# Altium integrated library NSC LDO.IntLib: 1202 symbols (part 7 of 27)
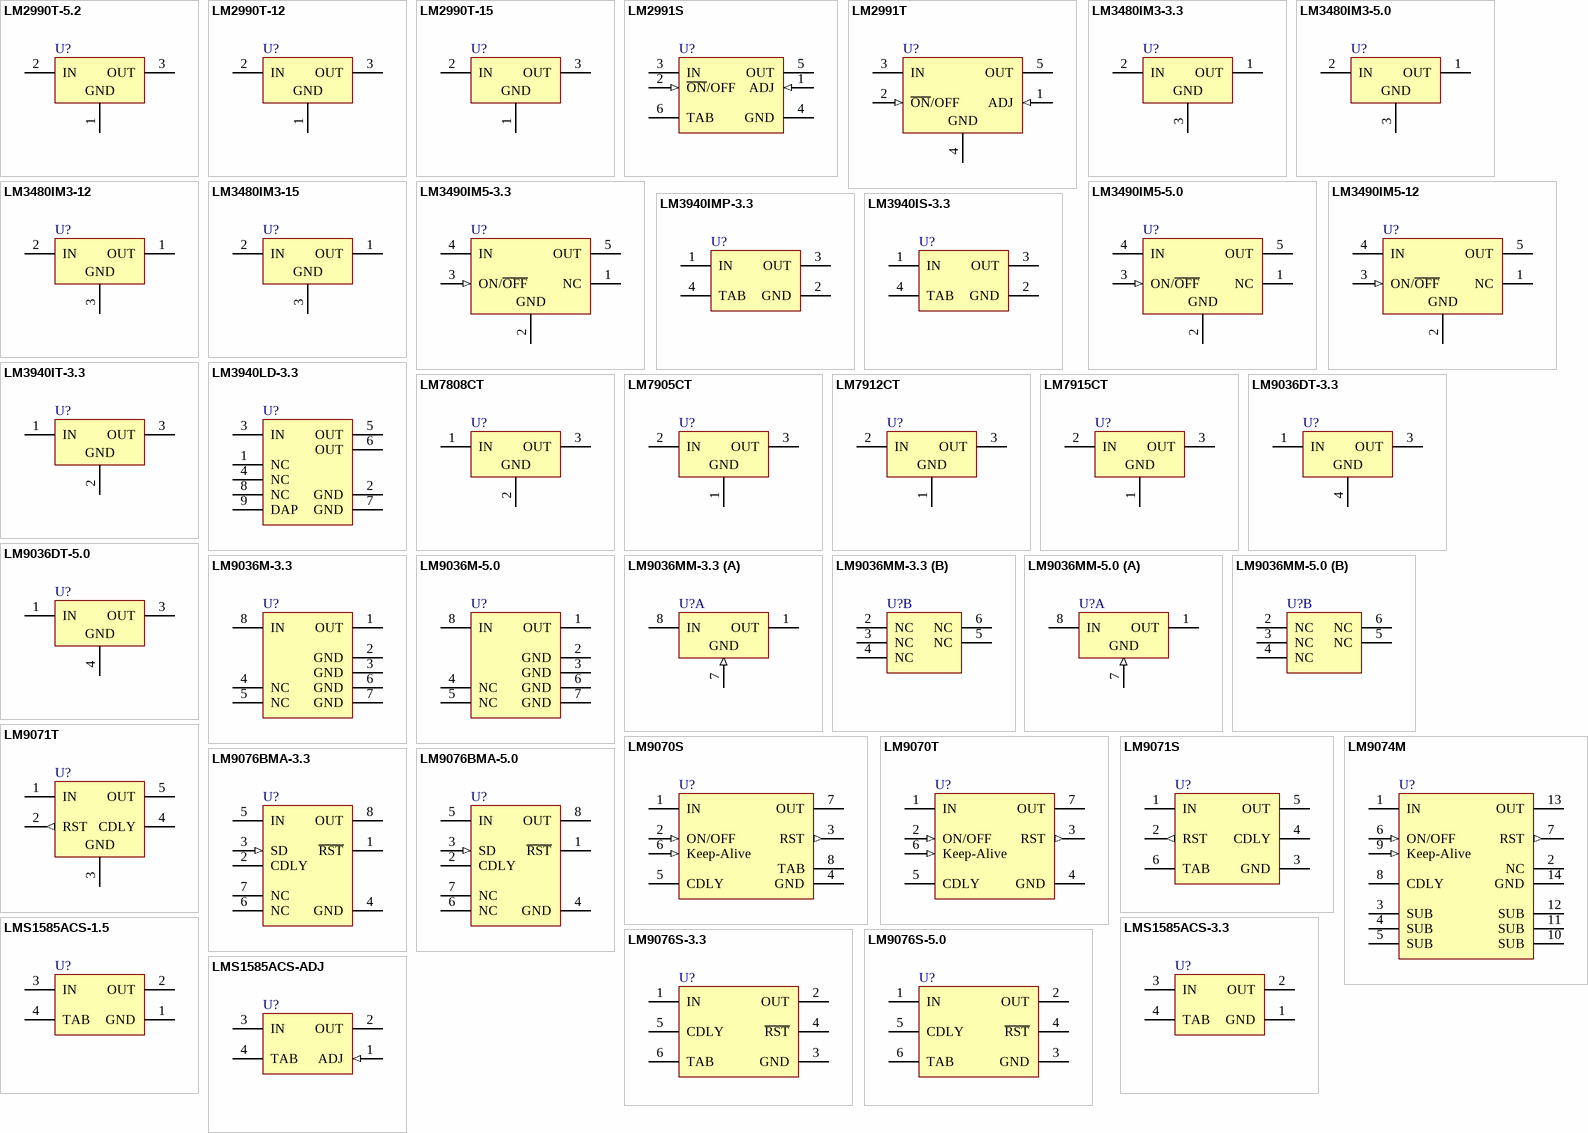
[diagram p36: symbols LM2990T-5.2 to LMS1585ACS-ADJ]

## LM3490IM5-5.0
designator U?
100 mA, SOT-23, Quasi Low-Dropout Linear Voltage Regulator with Logic-Controlled ON/OFF; PartNumber: LM3490IM5-5.0; Manufacturer: National Semiconductor; CompType: LDO IC; PackageTopMarking: L79B*XTT; Published: 4-Dec-2008; DatasheetVersion: Jun-2007; PackageVersion: revD, Aug-2008; PackageReference: MF05A; Publisher: Altium Limited; PackageDescription: Molded SOT-23, .115 x .063 x .040 in Body, 5 Lead, .0375 in Pitch; RoHS: O; PinCount: 5; DigiKeyPartNumber: LM3490IM5-5.0CT-ND; Code_IPC: SOT23-5; ComponentLink1Description: LM3490 Datasheet; ComponentLink1URL: http://www.national.com/ds/LM/LM3490.pdf; ComponentLink2Description: LM3490 Web Page; ComponentLink2URL: http://www.national.com/pf/LM/LM3490.html; ComponentLink3Description: MF05A Package Page; ComponentLink3URL: http://www.national.com/packaging/folders/mf05a.html
footprint MF05A_N (SOT23, 5-Leads, Body 2.9x1.6mm, Pitch 0.95mm, Lead Span 2.8mm, IPC Medium Density)
footprint MF05A_L (SOT23, 5-Leads, Body 2.9x1.6mm, Pitch 0.95mm, Lead Span 2.8mm, IPC High Density)
footprint MF05A_M (SOT23, 5-Leads, Body 2.9x1.6mm, Pitch 0.95mm, Lead Span 2.8mm, IPC Low Density)
pins: 1 NC, 2 GND (power), 3 ON/~{OFF} (in), 4 IN (power), 5 OUT (power)

## LM3490IM5-12
designator U?
100 mA, SOT-23, Quasi Low-Dropout Linear Voltage Regulator with Logic-Controlled ON/OFF; PartNumber: LM3490IM5-12; Manufacturer: National Semiconductor; CompType: LDO IC; PackageTopMarking: L80B*XTT; Published: 4-Dec-2008; DatasheetVersion: Jun-2007; PackageVersion: revD, Aug-2008; PackageReference: MF05A; Publisher: Altium Limited; PackageDescription: Molded SOT-23, .115 x .063 x .040 in Body, 5 Lead, .0375 in Pitch; RoHS: Y; PinCount: 5; DigiKeyPartNumber: LM3490IM5-12CT-ND; Code_IPC: SOT23-5; ComponentLink1Description: LM3490 Datasheet; ComponentLink1URL: http://www.national.com/ds/LM/LM3490.pdf; ComponentLink2Description: LM3490 Web Page; ComponentLink2URL: http://www.national.com/pf/LM/LM3490.html; ComponentLink3Description: MF05A Package Page; ComponentLink3URL: http://www.national.com/packaging/folders/mf05a.html
footprint MF05A_N (SOT23, 5-Leads, Body 2.9x1.6mm, Pitch 0.95mm, Lead Span 2.8mm, IPC Medium Density)
footprint MF05A_L (SOT23, 5-Leads, Body 2.9x1.6mm, Pitch 0.95mm, Lead Span 2.8mm, IPC High Density)
footprint MF05A_M (SOT23, 5-Leads, Body 2.9x1.6mm, Pitch 0.95mm, Lead Span 2.8mm, IPC Low Density)
pins: 1 NC, 2 GND (power), 3 ON/~{OFF} (in), 4 IN (power), 5 OUT (power)

## LM3940IMP-3.3
designator U?
1A Low Dropout Regulator for 5V to 3.3V Conversion; PartNumber: LM3940IMP-3.3; Manufacturer: National Semiconductor; CompType: LDO IC; PackageTopMarking: XYTT*L52B; Published: 4-Dec-2008; DatasheetVersion: Jul-2007; PackageVersion: revB, Apr-2003; PackageReference: MP04A; Publisher: Altium Limited; PackageDescription: Molded SOT-223, 6.50 x 3.56 x 1.6mm Body, 4 Lead, 2.3mm Pitch; RoHS: O; PinCount: 4; DigiKeyPartNumber: LM3940IMP-3.3CT-ND; Code_JEDEC: TO-261-AA; Code_IPC: SOT223-4; ComponentLink1Description: LM3940 Datasheet; ComponentLink1URL: http://www.national.com/ds/LM/LM3940.pdf; ComponentLink2Description: LM3940 Web Page; ComponentLink2URL: http://www.national.com/pf/LM/LM3940.html; ComponentLink3Description: MP04A Package Page; ComponentLink3URL: http://www.national.com/packaging/folders/mp04a.html
footprint MP04A_N (SOT223, 4-Leads, Body 6.5x3.5mm, Pitch 2.3mm, Lead Span 7mm, IPC Medium Density)
footprint MP04A_L (SOT223, 4-Leads, Body 6.5x3.5mm, Pitch 2.3mm, Lead Span 7mm, IPC High Density)
footprint MP04A_M (SOT223, 4-Leads, Body 6.5x3.5mm, Pitch 2.3mm, Lead Span 7mm, IPC Low Density)
pins: 1 IN (power), 2 GND (power), 3 OUT (power), 4 TAB (power)

## LM3940IS-3.3
designator U?
1A Low Dropout Regulator for 5V to 3.3V Conversion; PartNumber: LM3940IS-3.3; Manufacturer: National Semiconductor; CompType: LDO IC; PackageTopMarking: NSUZXYTTE#*LM3940IS*-3.3 P+; Published: 4-Dec-2008; DatasheetVersion: Jul-2007; PackageVersion: revF, Apr-2005; PackageReference: TS3B; Publisher: Altium Limited; PackageDescription: TO-263, Molded, .400 x .390 x .180in, 3 Lead, .1in Pitch, Surface Mount; RoHS: O; PinCount: 3; DigiKeyPartNumber: LM3940IS-3.3-ND; Code_JEDEC: MO-169-AA; ComponentLink1Description: LM3940 Datasheet; ComponentLink1URL: http://www.national.com/ds/LM/LM3940.pdf; ComponentLink2Description: LM3940 Web Page; ComponentLink2URL: http://www.national.com/pf/LM/LM3940.html; ComponentLink3Description: TS3B Package Page; ComponentLink3URL: http://www.national.com/packaging/folders/ts3b.html
footprint TS3B_N (D2-PAK, 4-Leads, Body 8.6x10.2mm, Pitch 2.54mm, Lead Span 14.2mm, IPC Medium Density)
footprint TS3B_L (D2-PAK, 4-Leads, Body 8.6x10.2mm, Pitch 2.54mm, Lead Span 14.2mm, IPC High Density)
footprint TS3B_M (D2-PAK, 4-Leads, Body 8.6x10.2mm, Pitch 2.54mm, Lead Span 14.2mm, IPC Low Density)
pins: 1 IN (power), 2 GND (power), 3 OUT (power), 4 TAB (power)

## LM3940IT-3.3
designator U?
1A Low Dropout Regulator for 5V to 3.3V Conversion; PartNumber: LM3940IT-3.3; Manufacturer: National Semiconductor; CompType: LDO IC; PackageTopMarking: NSUZXYTTE#*LM3940IT*-3.3 P+; Published: 4-Dec-2008; DatasheetVersion: Jul-2007; PackageVersion: revL, Jan-1992; PackageReference: T03B; Publisher: Altium Limited; PackageDescription: TO-220, Molded, 3 Lead, Straight; RoHS: O; PinCount: 3; DigiKeyPartNumber: LM3940IT-3.3-ND; ComponentLink1Description: LM3940 Datasheet; ComponentLink1URL: http://www.national.com/ds/LM/LM3940.pdf; ComponentLink2Description: LM3940 Web Page; ComponentLink2URL: http://www.national.com/pf/LM/LM3940.html; ComponentLink3Description: T03B Package Page; ComponentLink3URL: http://www.national.com/packaging/folders/t03b.html
footprint T03B (TO, Thru-Hole, Vertical, Heatsink Mounted; 3 In-Line Leads; Pitch 2.54 mm)
pins: 1 IN (power), 2 GND (power), 3 OUT (power)

## LM3940LD-3.3
designator U?
1A Low Dropout Regulator for 5V to 3.3V Conversion; PartNumber: LM3940LD-3.3; Manufacturer: National Semiconductor; CompType: LDO IC; PackageTopMarking: NS*UZXYTT*L00013B; Published: 4-Dec-2008; DatasheetVersion: Jul-2007; PackageVersion: revB, Jun-2003; PackageReference: LDC08A; Publisher: Altium Limited; PackageDescription: LLP, Plastic, Dual, 4 x 4 x 0.75mm Body, 8 Lead, 0.8mm Pitch; RoHS: O; PinCount: 8; DigiKeyPartNumber: LM3940LD-3.3-ND; ComponentLink1Description: LM3940 Datasheet; ComponentLink1URL: http://www.national.com/ds/LM/LM3940.pdf; ComponentLink2Description: LM3940 Web Page; ComponentLink2URL: http://www.national.com/pf/LM/LM3940.html; ComponentLink3Description: LDC08A Package Page; ComponentLink3URL: http://www.national.com/packaging/folders/ldc08a.html
footprint LDC08A (PSON, 8-Leads, Body 4x4mm, Pitch 0.8mm, NSC Recommended)
pins: 1 NC, 2 GND (power), 3 IN (power), 4 NC, 5 OUT (power), 6 OUT (power), 7 GND (power), 8 NC, 9 DAP (power)

## LM7808CT
designator U?
Series 3-Terminal Positive Regulators; PartNumber: LM7808CT; Manufacturer: National Semiconductor; CompType: LDO IC; PackageTopMarking: NSUZXYTTE#*LM7808CT; Published: 4-Dec-2008; DatasheetVersion: Jul-2006; PackageVersion: revL, Jan-1992; PackageReference: T03B; Publisher: Altium Limited; PackageDescription: TO-220, Molded, 3 Lead, Straight; RoHS: O; PinCount: 3; DigiKeyPartNumber: LM7808CT-ND; ComponentLink1Description: LM340 Datasheet; ComponentLink1URL: http://www.national.com/ds/LM/LM340.pdf; ComponentLink2Description: LM340 Web Page; ComponentLink2URL: http://www.national.com/pf/LM/LM340.html; ComponentLink3Description: T03B Package Page; ComponentLink3URL: http://www.national.com/packaging/folders/t03b.html
footprint T03B (TO, Thru-Hole, Vertical, Heatsink Mounted; 3 In-Line Leads; Pitch 2.54 mm)
pins: 1 IN (power), 2 GND (power), 3 OUT (power)

## LM7905CT
designator U?
3-Terminal Negative Regulator; PartNumber: LM7905CT; Manufacturer: National Semiconductor; CompType: LDO IC; PackageTopMarking: NSUZXYTTE#*LM7905CT; Published: 4-Dec-2008; DatasheetVersion: Sep-2001; PackageVersion: revL, Jan-1992; PackageReference: T03B; Publisher: Altium Limited; PackageDescription: TO-220, Molded, 3 Lead, Straight; RoHS: O; PinCount: 3; DigiKeyPartNumber: LM7905CTNS-ND; ComponentLink1Description: LM7905 Datasheet; ComponentLink1URL: http://www.national.com/ds/LM/LM7905.pdf; ComponentLink2Description: LM7905 Web Page; ComponentLink2URL: http://www.national.com/pf/LM/LM7905.html; ComponentLink3Description: T03B Package Page; ComponentLink3URL: http://www.national.com/packaging/folders/t03b.html
footprint T03B (TO, Thru-Hole, Vertical, Heatsink Mounted; 3 In-Line Leads; Pitch 2.54 mm)
pins: 1 GND (power), 2 IN (power), 3 OUT (power)

## LM7912CT
designator U?
3-Terminal Negative Regulator; PartNumber: LM7912CT; Manufacturer: National Semiconductor; CompType: LDO IC; PackageTopMarking: NSUZXYTTE#*LM7912CT; Published: 4-Dec-2008; DatasheetVersion: Sep-2001; PackageVersion: revL, Jan-1992; PackageReference: T03B; Publisher: Altium Limited; PackageDescription: TO-220, Molded, 3 Lead, Straight; RoHS: O; PinCount: 3; DigiKeyPartNumber: LM7912CT-ND; ComponentLink1Description: LM7912 Datasheet; ComponentLink1URL: http://www.national.com/ds/LM/LM7912.pdf; ComponentLink2Description: LM7912 Web Page; ComponentLink2URL: http://www.national.com/pf/LM/LM7912.html; ComponentLink3Description: T03B Package Page; ComponentLink3URL: http://www.national.com/packaging/folders/t03b.html
footprint T03B (TO, Thru-Hole, Vertical, Heatsink Mounted; 3 In-Line Leads; Pitch 2.54 mm)
pins: 1 GND (power), 2 IN (power), 3 OUT (power)

## LM7915CT
designator U?
3-Terminal Negative Regulator; PartNumber: LM7915CT; Manufacturer: National Semiconductor; CompType: LDO IC; PackageTopMarking: NSUZXYTTE#*LM7915CT; Published: 4-Dec-2008; DatasheetVersion: Sep-2001; PackageVersion: revL, Jan-1992; PackageReference: T03B; Publisher: Altium Limited; PackageDescription: TO-220, Molded, 3 Lead, Straight; RoHS: O; PinCount: 3; DigiKeyPartNumber: LM7915CT-ND; ComponentLink1Description: LM7915 Datasheet; ComponentLink1URL: http://www.national.com/ds/LM/LM7915.pdf; ComponentLink2Description: LM7915 Web Page; ComponentLink2URL: http://www.national.com/pf/LM/LM7915.html; ComponentLink3Description: T03B Package Page; ComponentLink3URL: http://www.national.com/packaging/folders/t03b.html
footprint T03B (TO, Thru-Hole, Vertical, Heatsink Mounted; 3 In-Line Leads; Pitch 2.54 mm)
pins: 1 GND (power), 2 IN (power), 3 OUT (power)

## LM9036DT-3.3
designator U?
Ultra-Low Quiescent Current Voltage Regulator; PartNumber: LM9036DT-3.3; Manufacturer: National Semiconductor; CompType: LDO IC; PackageTopMarking: NSUZXYTT*LM9036D*T-3.3; Published: 4-Dec-2008; DatasheetVersion: Jul-2008; PackageVersion: revC, Apr-2003; PackageReference: TD03B; Publisher: Altium Limited; PackageDescription: TO252, Molded, Jedec, 6.8 x 6.10 x 2.30mm Body, 3 Lead, 2.28mm Pitch, Surface Mount; RoHS: N; PinCount: 3; DigiKeyPartNumber: LM9036DT-3.3-ND; Code_JEDEC: TO-252-AA; ComponentLink1Description: LM9036 Datasheet; ComponentLink1URL: http://www.national.com/ds/LM/LM9036.pdf; ComponentLink2Description: LM9036 Web Page; ComponentLink2URL: http://www.national.com/pf/LM/LM9036.html; ComponentLink3Description: TD03B Package Page; ComponentLink3URL: http://www.national.com/packaging/folders/td03b.html
footprint TD03B_N (D-PAK, 4-Leads, Body 6.1x6.6mm, Pitch 2.29mm, Lead Span 9.7mm, IPC Medium Density)
footprint TD03B_L (D-PAK, 4-Leads, Body 6.1x6.6mm, Pitch 2.29mm, Lead Span 9.7mm, IPC High Density)
footprint TD03B_M (D-PAK, 4-Leads, Body 6.1x6.6mm, Pitch 2.29mm, Lead Span 9.7mm, IPC Low Density)
pins: 1 IN (power), 3 OUT (power), 4 GND (power)

## LM9036DT-5.0
designator U?
Ultra-Low Quiescent Current Voltage Regulator; PartNumber: LM9036DT-5.0; Manufacturer: National Semiconductor; CompType: LDO IC; PackageTopMarking: NSUZXYTT*LM9036D*T-5.0; Published: 4-Dec-2008; DatasheetVersion: Jul-2008; PackageVersion: revC, Apr-2003; PackageReference: TD03B; Publisher: Altium Limited; PackageDescription: TO252, Molded, Jedec, 6.8 x 6.10 x 2.30mm Body, 3 Lead, 2.28mm Pitch, Surface Mount; RoHS: Y; PinCount: 3; DigiKeyPartNumber: LM9036DT-5.0-ND; Code_JEDEC: TO-252-AA; ComponentLink1Description: LM9036 Datasheet; ComponentLink1URL: http://www.national.com/ds/LM/LM9036.pdf; ComponentLink2Description: LM9036 Web Page; ComponentLink2URL: http://www.national.com/pf/LM/LM9036.html; ComponentLink3Description: TD03B Package Page; ComponentLink3URL: http://www.national.com/packaging/folders/td03b.html
footprint TD03B_N (D-PAK, 4-Leads, Body 6.1x6.6mm, Pitch 2.29mm, Lead Span 9.7mm, IPC Medium Density)
footprint TD03B_L (D-PAK, 4-Leads, Body 6.1x6.6mm, Pitch 2.29mm, Lead Span 9.7mm, IPC High Density)
footprint TD03B_M (D-PAK, 4-Leads, Body 6.1x6.6mm, Pitch 2.29mm, Lead Span 9.7mm, IPC Low Density)
pins: 1 IN (power), 3 OUT (power), 4 GND (power)

## LM9036M-3.3
designator U?
Ultra-Low Quiescent Current Voltage Regulator; PartNumber: LM9036M-3.3; Manufacturer: National Semiconductor; CompType: LDO IC; PackageTopMarking: NSZXTT*LM903*6M-3; Published: 4-Dec-2008; DatasheetVersion: Jul-2008; PackageVersion: revL, Sep-2006; PackageReference: M08A; Publisher: Altium Limited; PackageDescription: SOIC Narrow, 4.9 x 3.9 x 1.45mm, 8 Lead, 1.27mm Pitch; RoHS: Y; PinCount: 8; DigiKeyPartNumber: LM9036M-3.3-ND; Code_JEDEC: MS-012-AA; Code_IPC: SOIC127P600-8; ComponentLink1Description: LM9036 Datasheet; ComponentLink1URL: http://www.national.com/ds/LM/LM9036.pdf; ComponentLink2Description: LM9036 Web Page; ComponentLink2URL: http://www.national.com/pf/LM/LM9036.html; ComponentLink3Description: M08A Package Page; ComponentLink3URL: http://www.national.com/packaging/folders/m08a.html
footprint M08A_N (SOIC, 8-Leads, Body 4.9x3.9mm, Pitch 1.27mm, IPC Medium Density)
footprint M08A_L (SOIC, 8-Leads, Body 4.9x3.9mm, Pitch 1.27mm, IPC High Density)
footprint M08A_M (SOIC, 8-Leads, Body 4.9x3.9mm, Pitch 1.27mm, IPC Low Density)
pins: 1 OUT (power), 2 GND (power), 3 GND (power), 4 NC, 5 NC, 6 GND (power), 7 GND (power), 8 IN (power)

## LM9036M-5.0
designator U?
Ultra-Low Quiescent Current Voltage Regulator; PartNumber: LM9036M-5.0; Manufacturer: National Semiconductor; CompType: LDO IC; PackageTopMarking: NSZXTT*LM903*6M-5; Published: 4-Dec-2008; DatasheetVersion: Jul-2008; PackageVersion: revL, Sep-2006; PackageReference: M08A; Publisher: Altium Limited; PackageDescription: SOIC Narrow, 4.9 x 3.9 x 1.45mm, 8 Lead, 1.27mm Pitch; RoHS: Y; PinCount: 8; DigiKeyPartNumber: LM9036M-5.0-ND; Code_JEDEC: MS-012-AA; Code_IPC: SOIC127P600-8; ComponentLink1Description: LM9036 Datasheet; ComponentLink1URL: http://www.national.com/ds/LM/LM9036.pdf; ComponentLink2Description: LM9036 Web Page; ComponentLink2URL: http://www.national.com/pf/LM/LM9036.html; ComponentLink3Description: M08A Package Page; ComponentLink3URL: http://www.national.com/packaging/folders/m08a.html
footprint M08A_N (SOIC, 8-Leads, Body 4.9x3.9mm, Pitch 1.27mm, IPC Medium Density)
footprint M08A_L (SOIC, 8-Leads, Body 4.9x3.9mm, Pitch 1.27mm, IPC High Density)
footprint M08A_M (SOIC, 8-Leads, Body 4.9x3.9mm, Pitch 1.27mm, IPC Low Density)
pins: 1 OUT (power), 2 GND (power), 3 GND (power), 4 NC, 5 NC, 6 GND (power), 7 GND (power), 8 IN (power)

## LM9036MM-3.3
designator U?
Ultra-Low Quiescent Current Voltage Regulator; PartNumber: LM9036MM-3.3; Manufacturer: National Semiconductor; CompType: LDO IC; PackageTopMarking: ZXTT*KDB; Published: 4-Dec-2008; DatasheetVersion: Jul-2008; PackageVersion: revF, Apr-2008; PackageReference: MUA08A; Publisher: Altium Limited; PackageDescription: MINI SOIC, .118 x .118 x .034in, 8 Lead, .0256in Pitch; RoHS: Y; PinCount: 8; DigiKeyPartNumber: LM9036MM-3.3-ND; Code_JEDEC: MO-187-AA; ComponentLink1Description: LM9036 Datasheet; ComponentLink1URL: http://www.national.com/ds/LM/LM9036.pdf; ComponentLink2Description: LM9036 Web Page; ComponentLink2URL: http://www.national.com/pf/LM/LM9036.html; ComponentLink3Description: MUA08A Package Page; ComponentLink3URL: http://www.national.com/packaging/folders/mua08a.html
footprint MUA08A_N (TSOP, 8-Leads, Body 3x3mm, Pitch 0.65mm, IPC Medium Density)
footprint MUA08A_L (TSOP, 8-Leads, Body 3x3mm, Pitch 0.65mm, IPC High Density)
footprint MUA08A_M (TSOP, 8-Leads, Body 3x3mm, Pitch 0.65mm, IPC Low Density)
part A pins: 1 OUT (power), 7 ADJ (in), 8 IN (power)
part B pins: 2 NC, 3 NC, 4 NC, 5 NC, 6 NC
part A text: GND

## LM9036MM-5.0
designator U?
Ultra-Low Quiescent Current Voltage Regulator; PartNumber: LM9036MM-5.0; Manufacturer: National Semiconductor; CompType: LDO IC; PackageTopMarking: ZXTT*KDA; Published: 4-Dec-2008; DatasheetVersion: Jul-2008; PackageVersion: revF, Apr-2008; PackageReference: MUA08A; Publisher: Altium Limited; PackageDescription: MINI SOIC, .118 x .118 x .034in, 8 Lead, .0256in Pitch; RoHS: Y; PinCount: 8; DigiKeyPartNumber: LM9036MM-5.0-ND; Code_JEDEC: MO-187-AA; ComponentLink1Description: LM9036 Datasheet; ComponentLink1URL: http://www.national.com/ds/LM/LM9036.pdf; ComponentLink2Description: LM9036 Web Page; ComponentLink2URL: http://www.national.com/pf/LM/LM9036.html; ComponentLink3Description: MUA08A Package Page; ComponentLink3URL: http://www.national.com/packaging/folders/mua08a.html
footprint MUA08A_N (TSOP, 8-Leads, Body 3x3mm, Pitch 0.65mm, IPC Medium Density)
footprint MUA08A_L (TSOP, 8-Leads, Body 3x3mm, Pitch 0.65mm, IPC High Density)
footprint MUA08A_M (TSOP, 8-Leads, Body 3x3mm, Pitch 0.65mm, IPC Low Density)
part A pins: 1 OUT (power), 7 ADJ (in), 8 IN (power)
part B pins: 2 NC, 3 NC, 4 NC, 5 NC, 6 NC
part A text: GND

## LM9070S
designator U?
Low-Dropout System Voltage Regulator with Keep-Alive ON/OFF Control; PartNumber: LM9070S; Manufacturer: National Semiconductor; CompType: LDO IC; PackageTopMarking: NSUZXYTTE#*LM9070S; Published: 4-Dec-2008; DatasheetVersion: Mar-2005; PackageVersion: revE, Jul-2003; PackageReference: TS7B; Publisher: Altium Limited; PackageDescription: TO-263, Molded, .400 x .390 x .180in Body, 7 Lead, .050in Pitch, Surface Mount; RoHS: Y; PinCount: 7; DigiKeyPartNumber: LM9070S-ND; Code_JEDEC: MO-169-AC; ComponentLink1Description: LM9070 Datasheet; ComponentLink1URL: http://www.national.com/ds/LM/LM9070.pdf; ComponentLink2Description: LM9070 Web Page; ComponentLink2URL: http://www.national.com/pf/LM/LM9070.html; ComponentLink3Description: TS7B Package Page; ComponentLink3URL: http://www.national.com/packaging/folders/ts7b.html
footprint TS7B_N (D2-PAK, 8-Leads, Body 8.6x10.2mm, Pitch 1.27mm, Lead Span 14.1mm, IPC Medium Density)
footprint TS7B_L (D2-PAK, 8-Leads, Body 8.6x10.2mm, Pitch 1.27mm, Lead Span 14.1mm, IPC High Density)
footprint TS7B_M (D2-PAK, 8-Leads, Body 8.6x10.2mm, Pitch 1.27mm, Lead Span 14.1mm, IPC Low Density)
pins: 1 IN (power), 2 ON/OFF (in), 3 RST (out), 4 GND (power), 5 CDLY, 6 Keep-Alive (in), 7 OUT (power), 8 TAB (power)

## LM9070T
designator U?
Low-Dropout System Voltage Regulator with Keep-Alive ON/OFF Control; PartNumber: LM9070T; Manufacturer: National Semiconductor; CompType: LDO IC; PackageTopMarking: NSUZXYTTE#*LM9070T; Published: 4-Dec-2008; DatasheetVersion: Mar-2005; PackageVersion: revC, Apr-1999; PackageReference: TA07B; Publisher: Altium Limited; PackageDescription: TO-220, Molded, .400 x .590 x .180in Body, 7 Lead, .050in Pitch, Staggered; RoHS: Y; PinCount: 7; DigiKeyPartNumber: LM9070T-ND; Code_JEDEC: TO-220-AB; ComponentLink1Description: LM9070 Datasheet; ComponentLink1URL: http://www.national.com/ds/LM/LM9070.pdf; ComponentLink2Description: LM9070 Web Page; ComponentLink2URL: http://www.national.com/pf/LM/LM9070.html; ComponentLink3Description: TA07B Package Page; ComponentLink3URL: http://www.national.com/packaging/folders/ta07b.html
footprint TA07B (TO, Thru-Hole, Vertical, Heatsink Mounted; 7 Bent Staggered Leads; Pitch 1.27 mm)
pins: 1 IN (power), 2 ON/OFF (in), 3 RST (out), 4 GND (power), 5 CDLY, 6 Keep-Alive (in), 7 OUT (power)

## LM9071S
designator U?
Low-Dropout System Voltage Regulator with Delayed Rest; PartNumber: LM9071S; Manufacturer: National Semiconductor; CompType: LDO IC; PackageTopMarking: NSUZXYTTE#*LM9071S; Published: 4-Dec-2008; DatasheetVersion: Mar-2001; PackageVersion: revD, Apr-2005; PackageReference: TS5B; Publisher: Altium Limited; PackageDescription: TO-263, Molded, .400 x .390 x .180in, 5 Lead, .067in Pitch, Surface Mount; RoHS: Y; PinCount: 5; DigiKeyPartNumber: LM9071S-ND; Code_JEDEC: MO-169-AB; ComponentLink1Description: LM9071 Datasheet; ComponentLink1URL: http://www.national.com/ds/LM/LM9071.pdf; ComponentLink2Description: LM9071 Web Page; ComponentLink2URL: http://www.national.com/pf/LM/LM9071.html; ComponentLink3Description: TS5B Package Page; ComponentLink3URL: http://www.national.com/packaging/folders/ts5b.html
footprint TS5B_N (D2-PAK, 6-Leads, Body 8.6x10.2mm, Pitch 1.7mm, Lead Span 14.1mm, IPC Medium Density)
footprint TS5B_L (D2-PAK, 6-Leads, Body 8.6x10.2mm, Pitch 1.7mm, Lead Span 14.1mm, IPC High Density)
footprint TS5B_M (D2-PAK, 6-Leads, Body 8.6x10.2mm, Pitch 1.7mm, Lead Span 14.1mm, IPC Low Density)
pins: 1 IN (power), 2 RST (out), 3 GND (power), 4 CDLY, 5 OUT (power), 6 TAB (power)

## LM9071T
designator U?
Low-Dropout System Voltage Regulator with Delayed Rest; PartNumber: LM9071T; Manufacturer: National Semiconductor; CompType: LDO IC; PackageTopMarking: NSUZXYTTE#*LM9071T; Published: 4-Dec-2008; DatasheetVersion: Mar-2001; PackageVersion: revJ, Jan-1992; PackageReference: T05A; Publisher: Altium Limited; PackageDescription: TO-220, Molded, 5 Lead, Straight; RoHS: O; PinCount: 5; DigiKeyPartNumber: LM9071T-ND; Code_JEDEC: TO-220-AB; ComponentLink1Description: LM9071 Datasheet; ComponentLink1URL: http://www.national.com/ds/LM/LM9071.pdf; ComponentLink2Description: LM9071 Web Page; ComponentLink2URL: http://www.national.com/pf/LM/LM9071.html; ComponentLink3Description: T05A Package Page; ComponentLink3URL: http://www.national.com/packaging/folders/t05a.html
footprint T05A (TO, Thru-Hole, Vertical, Heatsink Mounted; 5 In-Line Leads; Pitch 1.70 mm)
pins: 1 IN (power), 2 RST (out), 3 GND (power), 4 CDLY, 5 OUT (power)

## LM9074M
designator U?
Low-Dropout System Voltage Regulator with Keep-Alive ON/OFF Control; PartNumber: LM9074M; Manufacturer: National Semiconductor; CompType: LDO IC; PackageTopMarking: NSUZXYTT*LM9074M; Published: 4-Dec-2008; DatasheetVersion: Nov-2005; PackageVersion: revJ, Jan-1996; PackageReference: M14A; Publisher: Altium Limited; PackageDescription: Molded Package S.O., .150in Wide, 14 Lead; RoHS: Y; PinCount: 14; DigiKeyPartNumber: LM9074M-ND; Code_JEDEC: MS-012AB; Code_IPC: SOIC127P600-14; ComponentLink1Description: LM9074 Datasheet; ComponentLink1URL: http://www.national.com/ds/LM/LM9074.pdf; ComponentLink2Description: LM9074 Web Page; ComponentLink2URL: http://www.national.com/pf/LM/LM9074.html; ComponentLink3Description: M14A Package Page; ComponentLink3URL: http://www.national.com/packaging/folders/m14a.html
footprint M14A_N (SOIC, 14-Leads, Body 8.6x3.9mm, Pitch 1.27mm, IPC Medium Density)
footprint M14A_L (SOIC, 14-Leads, Body 8.6x3.9mm, Pitch 1.27mm, IPC High Density)
footprint M14A_M (SOIC, 14-Leads, Body 8.6x3.9mm, Pitch 1.27mm, IPC Low Density)
pins: 1 IN (power), 2 NC, 3 SUB, 4 SUB, 5 SUB, 6 ON/OFF (in), 7 RST (out), 8 CDLY, 9 Keep-Alive (in), 10 SUB, 11 SUB, 12 SUB, 13 OUT (power), 14 GND (power)

## LM9076BMA-3.3
designator U?
150mA Ultra-Low Quiescent Current LDO Regulator with Delayed Reset Output; PartNumber: LM9076BMA-3.3; Manufacturer: National Semiconductor; CompType: LDO IC; PackageTopMarking: NSZXTT*9076B*MA3.3; Published: 4-Dec-2008; DatasheetVersion: Nov-2007; PackageVersion: revL, Sep-2006; PackageReference: M08A; Publisher: Altium Limited; PackageDescription: SOIC Narrow, 4.9 x 3.9 x 1.45mm, 8 Lead, 1.27mm Pitch; RoHS: Y; PinCount: 8; DigiKeyPartNumber: LM9076BMA-3.3-ND; Code_JEDEC: MS-012-AA; Code_IPC: SOIC127P600-8; ComponentLink1Description: LM9076 Datasheet; ComponentLink1URL: http://www.national.com/ds/LM/LM9076.pdf; ComponentLink2Description: LM9076 Web Page; ComponentLink2URL: http://www.national.com/pf/LM/LM9076.html; ComponentLink3Description: M08A Package Page; ComponentLink3URL: http://www.national.com/packaging/folders/m08a.html
footprint M08A_N (SOIC, 8-Leads, Body 4.9x3.9mm, Pitch 1.27mm, IPC Medium Density)
footprint M08A_L (SOIC, 8-Leads, Body 4.9x3.9mm, Pitch 1.27mm, IPC High Density)
footprint M08A_M (SOIC, 8-Leads, Body 4.9x3.9mm, Pitch 1.27mm, IPC Low Density)
pins: 1 ~{RST} (oc), 2 CDLY, 3 SD (in), 4 GND (power), 5 IN (power), 6 NC, 7 NC, 8 OUT (power)

## LM9076BMA-5.0
designator U?
150mA Ultra-Low Quiescent Current LDO Regulator with Delayed Reset Output; PartNumber: LM9076BMA-5.0; Manufacturer: National Semiconductor; CompType: LDO IC; PackageTopMarking: NSZXTT*9076B*MA5.0; Published: 4-Dec-2008; DatasheetVersion: Nov-2007; PackageVersion: revL, Sep-2006; PackageReference: M08A; Publisher: Altium Limited; PackageDescription: SOIC Narrow, 4.9 x 3.9 x 1.45mm, 8 Lead, 1.27mm Pitch; RoHS: O; PinCount: 8; DigiKeyPartNumber: LM9076BMA-5.0-ND; Code_JEDEC: MS-012-AA; Code_IPC: SOIC127P600-8; ComponentLink1Description: LM9076 Datasheet; ComponentLink1URL: http://www.national.com/ds/LM/LM9076.pdf; ComponentLink2Description: LM9076 Web Page; ComponentLink2URL: http://www.national.com/pf/LM/LM9076.html; ComponentLink3Description: M08A Package Page; ComponentLink3URL: http://www.national.com/packaging/folders/m08a.html
footprint M08A_N (SOIC, 8-Leads, Body 4.9x3.9mm, Pitch 1.27mm, IPC Medium Density)
footprint M08A_L (SOIC, 8-Leads, Body 4.9x3.9mm, Pitch 1.27mm, IPC High Density)
footprint M08A_M (SOIC, 8-Leads, Body 4.9x3.9mm, Pitch 1.27mm, IPC Low Density)
pins: 1 ~{RST} (oc), 2 CDLY, 3 SD (in), 4 GND (power), 5 IN (power), 6 NC, 7 NC, 8 OUT (power)

## LM9076S-3.3
designator U?
150mA Ultra-Low Quiescent Current LDO Regulator with Delayed Reset Output; PartNumber: LM9076S-3.3; Manufacturer: National Semiconductor; CompType: LDO IC; PackageTopMarking: NSUZXYTTE#*LM9076S*-3.3; Published: 4-Dec-2008; DatasheetVersion: Nov-2007; PackageVersion: revD, Apr-2005; PackageReference: TS5B; Publisher: Altium Limited; PackageDescription: TO-263, Molded, .400 x .390 x .180in, 5 Lead, .067in Pitch, Surface Mount; RoHS: O; PinCount: 5; DigiKeyPartNumber: LM9076SX-3.3CT-ND; Code_JEDEC: MO-169-AB; ComponentLink1Description: LM9076 Datasheet; ComponentLink1URL: http://www.national.com/ds/LM/LM9076.pdf; ComponentLink2Description: LM9076 Web Page; ComponentLink2URL: http://www.national.com/pf/LM/LM9076.html; ComponentLink3Description: TS5B Package Page; ComponentLink3URL: http://www.national.com/packaging/folders/ts5b.html
footprint TS5B_N (D2-PAK, 6-Leads, Body 8.6x10.2mm, Pitch 1.7mm, Lead Span 14.1mm, IPC Medium Density)
footprint TS5B_L (D2-PAK, 6-Leads, Body 8.6x10.2mm, Pitch 1.7mm, Lead Span 14.1mm, IPC High Density)
footprint TS5B_M (D2-PAK, 6-Leads, Body 8.6x10.2mm, Pitch 1.7mm, Lead Span 14.1mm, IPC Low Density)
pins: 1 IN (power), 2 OUT (power), 3 GND (power), 4 ~{RST} (oc), 5 CDLY, 6 TAB (power)

## LM9076S-5.0
designator U?
150mA Ultra-Low Quiescent Current LDO Regulator with Delayed Reset Output; PartNumber: LM9076S-5.0; Manufacturer: National Semiconductor; CompType: LDO IC; PackageTopMarking: NSUZXYTTE#*LM9076S*-5.0; Published: 4-Dec-2008; DatasheetVersion: Nov-2007; PackageVersion: revD, Apr-2005; PackageReference: TS5B; Publisher: Altium Limited; PackageDescription: TO-263, Molded, .400 x .390 x .180in, 5 Lead, .067in Pitch, Surface Mount; RoHS: O; PinCount: 5; DigiKeyPartNumber: LM9076S-5.0-ND; Code_JEDEC: MO-169-AB; ComponentLink1Description: LM9076 Datasheet; ComponentLink1URL: http://www.national.com/ds/LM/LM9076.pdf; ComponentLink2Description: LM9076 Web Page; ComponentLink2URL: http://www.national.com/pf/LM/LM9076.html; ComponentLink3Description: TS5B Package Page; ComponentLink3URL: http://www.national.com/packaging/folders/ts5b.html
footprint TS5B_N (D2-PAK, 6-Leads, Body 8.6x10.2mm, Pitch 1.7mm, Lead Span 14.1mm, IPC Medium Density)
footprint TS5B_L (D2-PAK, 6-Leads, Body 8.6x10.2mm, Pitch 1.7mm, Lead Span 14.1mm, IPC High Density)
footprint TS5B_M (D2-PAK, 6-Leads, Body 8.6x10.2mm, Pitch 1.7mm, Lead Span 14.1mm, IPC Low Density)
pins: 1 IN (power), 2 OUT (power), 3 GND (power), 4 ~{RST} (oc), 5 CDLY, 6 TAB (power)

## LMS1585ACS-1.5
designator U?
5A Low Dropout Fast Response Regulators; PartNumber: LMS1585ACS-1.5; Manufacturer: National Semiconductor; CompType: LDO IC; PackageTopMarking: NSUZXYTTE#*LMS1585*ACS-1.5; Published: 4-Dec-2008; DatasheetVersion: Jun-2005; PackageVersion: revF, Apr-2005; PackageReference: TS3B; Publisher: Altium Limited; PackageDescription: TO-263, Molded, .400 x .390 x .180in, 3 Lead, .1in Pitch, Surface Mount; RoHS: O; PinCount: 3; DigiKeyPartNumber: LMS1585ACS-1.5-ND; Code_JEDEC: MO-169-AA; ComponentLink1Description: LMS1585A Datasheet; ComponentLink1URL: http://www.national.com/ds/LM/LMS1585A.pdf; ComponentLink2Description: LMS1585A Web Page; ComponentLink2URL: http://www.national.com/pf/LM/LMS1585A.html; ComponentLink3Description: TS3B Package Page; ComponentLink3URL: http://www.national.com/packaging/folders/ts3b.html
footprint TS3B_N (D2-PAK, 4-Leads, Body 8.6x10.2mm, Pitch 2.54mm, Lead Span 14.2mm, IPC Medium Density)
footprint TS3B_L (D2-PAK, 4-Leads, Body 8.6x10.2mm, Pitch 2.54mm, Lead Span 14.2mm, IPC High Density)
footprint TS3B_M (D2-PAK, 4-Leads, Body 8.6x10.2mm, Pitch 2.54mm, Lead Span 14.2mm, IPC Low Density)
pins: 1 GND (power), 2 OUT (power), 3 IN (power), 4 TAB (power)

## LMS1585ACS-3.3
designator U?
5A Low Dropout Fast Response Regulators; PartNumber: LMS1585ACS-3.3; Manufacturer: National Semiconductor; CompType: LDO IC; PackageTopMarking: NSUZXYTTE#*LMS1585*ACS-3.3; Published: 4-Dec-2008; DatasheetVersion: Jun-2005; PackageVersion: revF, Apr-2005; PackageReference: TS3B; Publisher: Altium Limited; PackageDescription: TO-263, Molded, .400 x .390 x .180in, 3 Lead, .1in Pitch, Surface Mount; RoHS: O; PinCount: 3; DigiKeyPartNumber: LMS1585ACS-3.3-ND; Code_JEDEC: MO-169-AA; ComponentLink1Description: LMS1585A Datasheet; ComponentLink1URL: http://www.national.com/ds/LM/LMS1585A.pdf; ComponentLink2Description: LMS1585A Web Page; ComponentLink2URL: http://www.national.com/pf/LM/LMS1585A.html; ComponentLink3Description: TS3B Package Page; ComponentLink3URL: http://www.national.com/packaging/folders/ts3b.html
footprint TS3B_N (D2-PAK, 4-Leads, Body 8.6x10.2mm, Pitch 2.54mm, Lead Span 14.2mm, IPC Medium Density)
footprint TS3B_L (D2-PAK, 4-Leads, Body 8.6x10.2mm, Pitch 2.54mm, Lead Span 14.2mm, IPC High Density)
footprint TS3B_M (D2-PAK, 4-Leads, Body 8.6x10.2mm, Pitch 2.54mm, Lead Span 14.2mm, IPC Low Density)
pins: 1 GND (power), 2 OUT (power), 3 IN (power), 4 TAB (power)

## LMS1585ACS-ADJ
designator U?
5A Low Dropout Fast Response Regulators; PartNumber: LMS1585ACS-ADJ; Manufacturer: National Semiconductor; CompType: LDO IC; PackageTopMarking: NSUZXYTTE#*LMS1585*ACS-ADJ; Published: 4-Dec-2008; DatasheetVersion: Jun-2005; PackageVersion: revF, Apr-2005; PackageReference: TS3B; Publisher: Altium Limited; PackageDescription: TO-263, Molded, .400 x .390 x .180in, 3 Lead, .1in Pitch, Surface Mount; RoHS: O; PinCount: 3; DigiKeyPartNumber: LMS1585ACS-ADJ-ND; Code_JEDEC: MO-169-AA; ComponentLink1Description: LMS1585A Datasheet; ComponentLink1URL: http://www.national.com/ds/LM/LMS1585A.pdf; ComponentLink2Description: LMS1585A Web Page; ComponentLink2URL: http://www.national.com/pf/LM/LMS1585A.html; ComponentLink3Description: TS3B Package Page; ComponentLink3URL: http://www.national.com/packaging/folders/ts3b.html
footprint TS3B_N (D2-PAK, 4-Leads, Body 8.6x10.2mm, Pitch 2.54mm, Lead Span 14.2mm, IPC Medium Density)
footprint TS3B_L (D2-PAK, 4-Leads, Body 8.6x10.2mm, Pitch 2.54mm, Lead Span 14.2mm, IPC High Density)
footprint TS3B_M (D2-PAK, 4-Leads, Body 8.6x10.2mm, Pitch 2.54mm, Lead Span 14.2mm, IPC Low Density)
pins: 1 ADJ (in), 2 OUT (power), 3 IN (power), 4 TAB (power)

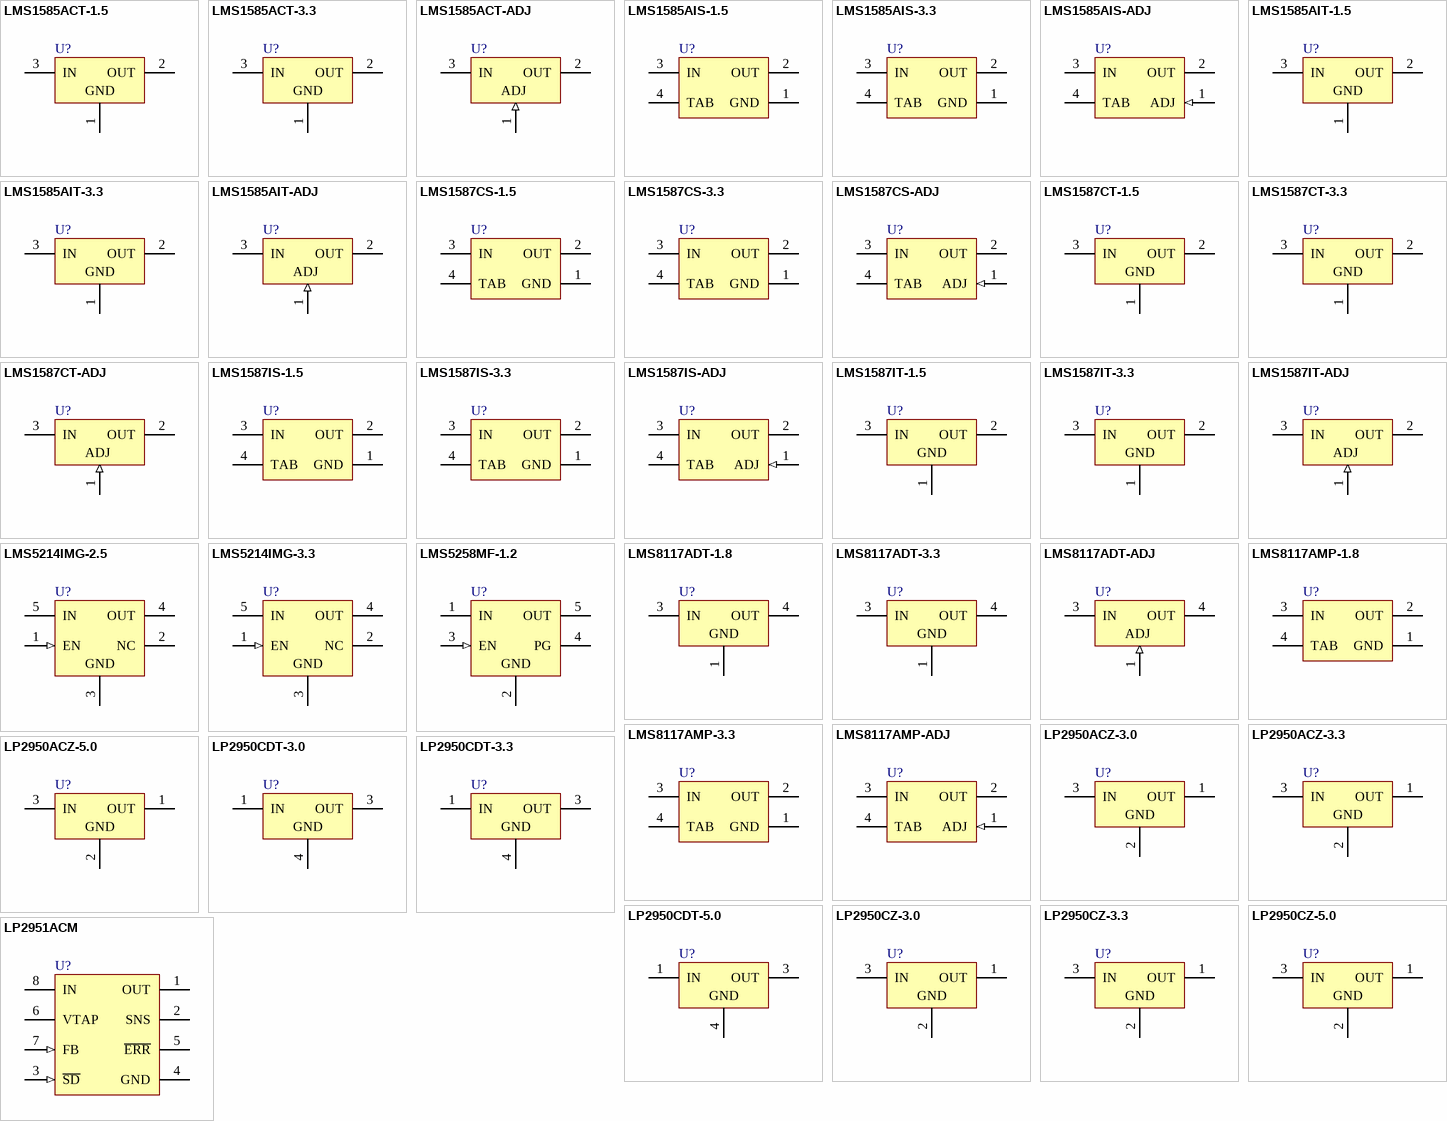
[diagram p8: symbols LMS1585ACT-1.5 to LP2951ACM]

## LMS1585ACT-1.5
designator U?
5A Low Dropout Fast Response Regulators; PartNumber: LMS1585ACT-1.5; Manufacturer: National Semiconductor; CompType: LDO IC; PackageTopMarking: NSUZXYTTE#*LMS1585ACT*1.5; Published: 4-Dec-2008; DatasheetVersion: Jun-2005; PackageVersion: revL, Jan-1992; PackageReference: T03B; Publisher: Altium Limited; PackageDescription: TO-220, Molded, 3 Lead, Straight; RoHS: O; PinCount: 3; DigiKeyPartNumber: LMS1585ACT-1.5-ND; ComponentLink1Description: LMS1585A Datasheet; ComponentLink1URL: http://www.national.com/ds/LM/LMS1585A.pdf; ComponentLink2Description: LMS1585A Web Page; ComponentLink2URL: http://www.national.com/pf/LM/LMS1585A.html; ComponentLink3Description: T03B Package Page; ComponentLink3URL: http://www.national.com/packaging/folders/t03b.html
footprint T03B (TO, Thru-Hole, Vertical, Heatsink Mounted; 3 In-Line Leads; Pitch 2.54 mm)
pins: 1 GND (power), 2 OUT (power), 3 IN (power)

## LMS1585ACT-3.3
designator U?
5A Low Dropout Fast Response Regulators; PartNumber: LMS1585ACT-3.3; Manufacturer: National Semiconductor; CompType: LDO IC; PackageTopMarking: NSUZXYTTE#*LMS1585*ACT-3.3; Published: 4-Dec-2008; DatasheetVersion: Jun-2005; PackageVersion: revL, Jan-1992; PackageReference: T03B; Publisher: Altium Limited; PackageDescription: TO-220, Molded, 3 Lead, Straight; RoHS: O; PinCount: 3; DigiKeyPartNumber: LMS1585ACT-3.3-ND; ComponentLink1Description: LMS1585A Datasheet; ComponentLink1URL: http://www.national.com/ds/LM/LMS1585A.pdf; ComponentLink2Description: LMS1585A Web Page; ComponentLink2URL: http://www.national.com/pf/LM/LMS1585A.html; ComponentLink3Description: T03B Package Page; ComponentLink3URL: http://www.national.com/packaging/folders/t03b.html
footprint T03B (TO, Thru-Hole, Vertical, Heatsink Mounted; 3 In-Line Leads; Pitch 2.54 mm)
pins: 1 GND (power), 2 OUT (power), 3 IN (power)

## LMS1585ACT-ADJ
designator U?
5A Low Dropout Fast Response Regulators; PartNumber: LMS1585ACT-ADJ; Manufacturer: National Semiconductor; CompType: LDO IC; PackageTopMarking: NSUZXYTTE#*LMS1585*ACT-ADJ; Published: 4-Dec-2008; DatasheetVersion: Jun-2005; PackageVersion: revL, Jan-1992; PackageReference: T03B; Publisher: Altium Limited; PackageDescription: TO-220, Molded, 3 Lead, Straight; RoHS: O; PinCount: 3; DigiKeyPartNumber: LMS1585ACT-ADJ-ND; ComponentLink1Description: LMS1585A Datasheet; ComponentLink1URL: http://www.national.com/ds/LM/LMS1585A.pdf; ComponentLink2Description: LMS1585A Web Page; ComponentLink2URL: http://www.national.com/pf/LM/LMS1585A.html; ComponentLink3Description: T03B Package Page; ComponentLink3URL: http://www.national.com/packaging/folders/t03b.html
footprint T03B (TO, Thru-Hole, Vertical, Heatsink Mounted; 3 In-Line Leads; Pitch 2.54 mm)
pins: 1 ADJ (in), 2 OUT (power), 3 IN (power)

## LMS1585AIS-1.5
designator U?
5A Low Dropout Fast Response Regulators; PartNumber: LMS1585AIS-1.5; Manufacturer: National Semiconductor; CompType: LDO IC; PackageTopMarking: NSUZXYTTE#*LMS1585*AIS-1.5; Published: 4-Dec-2008; DatasheetVersion: Jun-2005; PackageVersion: revF, Apr-2005; PackageReference: TS3B; Publisher: Altium Limited; PackageDescription: TO-263, Molded, .400 x .390 x .180in, 3 Lead, .1in Pitch, Surface Mount; RoHS: O; PinCount: 3; DigiKeyPartNumber: LMS1585AIS-1.5-ND; Code_JEDEC: MO-169-AA; ComponentLink1Description: LMS1585A Datasheet; ComponentLink1URL: http://www.national.com/ds/LM/LMS1585A.pdf; ComponentLink2Description: LMS1585A Web Page; ComponentLink2URL: http://www.national.com/pf/LM/LMS1585A.html; ComponentLink3Description: TS3B Package Page; ComponentLink3URL: http://www.national.com/packaging/folders/ts3b.html
footprint TS3B_N (D2-PAK, 4-Leads, Body 8.6x10.2mm, Pitch 2.54mm, Lead Span 14.2mm, IPC Medium Density)
footprint TS3B_L (D2-PAK, 4-Leads, Body 8.6x10.2mm, Pitch 2.54mm, Lead Span 14.2mm, IPC High Density)
footprint TS3B_M (D2-PAK, 4-Leads, Body 8.6x10.2mm, Pitch 2.54mm, Lead Span 14.2mm, IPC Low Density)
pins: 1 GND (power), 2 OUT (power), 3 IN (power), 4 TAB (power)

## LMS1585AIS-3.3
designator U?
5A Low Dropout Fast Response Regulators; PartNumber: LMS1585AIS-3.3; Manufacturer: National Semiconductor; CompType: LDO IC; PackageTopMarking: NSUZXYTTE#*LMS1585*AIS-3.3; Published: 4-Dec-2008; DatasheetVersion: Jun-2005; PackageVersion: revF, Apr-2005; PackageReference: TS3B; Publisher: Altium Limited; PackageDescription: TO-263, Molded, .400 x .390 x .180in, 3 Lead, .1in Pitch, Surface Mount; RoHS: O; PinCount: 3; DigiKeyPartNumber: LMS1585AIS-3.3-ND; Code_JEDEC: MO-169-AA; ComponentLink1Description: LMS1585A Datasheet; ComponentLink1URL: http://www.national.com/ds/LM/LMS1585A.pdf; ComponentLink2Description: LMS1585A Web Page; ComponentLink2URL: http://www.national.com/pf/LM/LMS1585A.html; ComponentLink3Description: TS3B Package Page; ComponentLink3URL: http://www.national.com/packaging/folders/ts3b.html
footprint TS3B_N (D2-PAK, 4-Leads, Body 8.6x10.2mm, Pitch 2.54mm, Lead Span 14.2mm, IPC Medium Density)
footprint TS3B_L (D2-PAK, 4-Leads, Body 8.6x10.2mm, Pitch 2.54mm, Lead Span 14.2mm, IPC High Density)
footprint TS3B_M (D2-PAK, 4-Leads, Body 8.6x10.2mm, Pitch 2.54mm, Lead Span 14.2mm, IPC Low Density)
pins: 1 GND (power), 2 OUT (power), 3 IN (power), 4 TAB (power)

## LMS1585AIS-ADJ
designator U?
5A Low Dropout Fast Response Regulators; PartNumber: LMS1585AIS-ADJ; Manufacturer: National Semiconductor; CompType: LDO IC; PackageTopMarking: NSUZXYTTE#*LMS1585*AIS-ADJ; Published: 4-Dec-2008; DatasheetVersion: Jun-2005; PackageVersion: revF, Apr-2005; PackageReference: TS3B; Publisher: Altium Limited; PackageDescription: TO-263, Molded, .400 x .390 x .180in, 3 Lead, .1in Pitch, Surface Mount; RoHS: O; PinCount: 3; DigiKeyPartNumber: LMS1585AIS-ADJ-ND; Code_JEDEC: MO-169-AA; ComponentLink1Description: LMS1585A Datasheet; ComponentLink1URL: http://www.national.com/ds/LM/LMS1585A.pdf; ComponentLink2Description: LMS1585A Web Page; ComponentLink2URL: http://www.national.com/pf/LM/LMS1585A.html; ComponentLink3Description: TS3B Package Page; ComponentLink3URL: http://www.national.com/packaging/folders/ts3b.html
footprint TS3B_N (D2-PAK, 4-Leads, Body 8.6x10.2mm, Pitch 2.54mm, Lead Span 14.2mm, IPC Medium Density)
footprint TS3B_L (D2-PAK, 4-Leads, Body 8.6x10.2mm, Pitch 2.54mm, Lead Span 14.2mm, IPC High Density)
footprint TS3B_M (D2-PAK, 4-Leads, Body 8.6x10.2mm, Pitch 2.54mm, Lead Span 14.2mm, IPC Low Density)
pins: 1 ADJ (in), 2 OUT (power), 3 IN (power), 4 TAB (power)

## LMS1585AIT-1.5
designator U?
5A Low Dropout Fast Response Regulators; PartNumber: LMS1585AIT-1.5; Manufacturer: National Semiconductor; CompType: LDO IC; PackageTopMarking: NSUZXYTTE#*LMS1585*AIT-1.5; Published: 4-Dec-2008; DatasheetVersion: Jun-2005; PackageVersion: revL, Jan-1992; PackageReference: T03B; Publisher: Altium Limited; PackageDescription: TO-220, Molded, 3 Lead, Straight; RoHS: Y; PinCount: 3; DigiKeyPartNumber: LMS1585AIT-1.5-ND; ComponentLink1Description: LMS1585A Datasheet; ComponentLink1URL: http://www.national.com/ds/LM/LMS1585A.pdf; ComponentLink2Description: LMS1585A Web Page; ComponentLink2URL: http://www.national.com/pf/LM/LMS1585A.html; ComponentLink3Description: T03B Package Page; ComponentLink3URL: http://www.national.com/packaging/folders/t03b.html
footprint T03B (TO, Thru-Hole, Vertical, Heatsink Mounted; 3 In-Line Leads; Pitch 2.54 mm)
pins: 1 GND (power), 2 OUT (power), 3 IN (power)

## LMS1585AIT-3.3
designator U?
5A Low Dropout Fast Response Regulators; PartNumber: LMS1585AIT-3.3; Manufacturer: National Semiconductor; CompType: LDO IC; PackageTopMarking: NSUZXYTTE#*LMS1585*AIT-3.3; Published: 4-Dec-2008; DatasheetVersion: Jun-2005; PackageVersion: revL, Jan-1992; PackageReference: T03B; Publisher: Altium Limited; PackageDescription: TO-220, Molded, 3 Lead, Straight; RoHS: O; PinCount: 3; DigiKeyPartNumber: LMS1585AIT-3.3-ND; ComponentLink1Description: LMS1585A Datasheet; ComponentLink1URL: http://www.national.com/ds/LM/LMS1585A.pdf; ComponentLink2Description: LMS1585A Web Page; ComponentLink2URL: http://www.national.com/pf/LM/LMS1585A.html; ComponentLink3Description: T03B Package Page; ComponentLink3URL: http://www.national.com/packaging/folders/t03b.html
footprint T03B (TO, Thru-Hole, Vertical, Heatsink Mounted; 3 In-Line Leads; Pitch 2.54 mm)
pins: 1 GND (power), 2 OUT (power), 3 IN (power)

## LMS1585AIT-ADJ
designator U?
5A Low Dropout Fast Response Regulators; PartNumber: LMS1585AIT-ADJ; Manufacturer: National Semiconductor; CompType: LDO IC; PackageTopMarking: NSUZXYTTE#*LMS1585*AIT-ADJ; Published: 4-Dec-2008; DatasheetVersion: Jun-2005; PackageVersion: revL, Jan-1992; PackageReference: T03B; Publisher: Altium Limited; PackageDescription: TO-220, Molded, 3 Lead, Straight; RoHS: O; PinCount: 3; DigiKeyPartNumber: LMS1585AIT-ADJ-ND; ComponentLink1Description: LMS1585A Datasheet; ComponentLink1URL: http://www.national.com/ds/LM/LMS1585A.pdf; ComponentLink2Description: LMS1585A Web Page; ComponentLink2URL: http://www.national.com/pf/LM/LMS1585A.html; ComponentLink3Description: T03B Package Page; ComponentLink3URL: http://www.national.com/packaging/folders/t03b.html
footprint T03B (TO, Thru-Hole, Vertical, Heatsink Mounted; 3 In-Line Leads; Pitch 2.54 mm)
pins: 1 ADJ (in), 2 OUT (power), 3 IN (power)

## LMS1587CS-1.5
designator U?
3A Low Dropout Fast Response Regulators; PartNumber: LMS1587CS-1.5; Manufacturer: National Semiconductor; CompType: LDO IC; PackageTopMarking: NSUZXYTTE#*LMS1587*CS-1.5; Published: 4-Dec-2008; DatasheetVersion: Jun-2005; PackageVersion: revF, Apr-2005; PackageReference: TS3B; Publisher: Altium Limited; PackageDescription: TO-263, Molded, .400 x .390 x .180in, 3 Lead, .1in Pitch, Surface Mount; RoHS: O; PinCount: 3; DigiKeyPartNumber: LMS1587CS-1.5-ND; Code_JEDEC: MO-169-AA; ComponentLink1Description: LMS1587 Datasheet; ComponentLink1URL: http://www.national.com/ds/LM/LMS1587.pdf; ComponentLink2Description: LMS1587 Web Page; ComponentLink2URL: http://www.national.com/pf/LM/LMS1587.html; ComponentLink3Description: TS3B Package Page; ComponentLink3URL: http://www.national.com/packaging/folders/ts3b.html
footprint TS3B_N (D2-PAK, 4-Leads, Body 8.6x10.2mm, Pitch 2.54mm, Lead Span 14.2mm, IPC Medium Density)
footprint TS3B_L (D2-PAK, 4-Leads, Body 8.6x10.2mm, Pitch 2.54mm, Lead Span 14.2mm, IPC High Density)
footprint TS3B_M (D2-PAK, 4-Leads, Body 8.6x10.2mm, Pitch 2.54mm, Lead Span 14.2mm, IPC Low Density)
pins: 1 GND (power), 2 OUT (power), 3 IN (power), 4 TAB (power)

## LMS1587CS-3.3
designator U?
3A Low Dropout Fast Response Regulators; PartNumber: LMS1587CS-3.3; Manufacturer: National Semiconductor; CompType: LDO IC; PackageTopMarking: NSUZXYTTE#*LMS1587*CS-3.3; Published: 4-Dec-2008; DatasheetVersion: Jun-2005; PackageVersion: revF, Apr-2005; PackageReference: TS3B; Publisher: Altium Limited; PackageDescription: TO-263, Molded, .400 x .390 x .180in, 3 Lead, .1in Pitch, Surface Mount; RoHS: O; PinCount: 3; DigiKeyPartNumber: LMS1587CS-3.3-ND; Code_JEDEC: MO-169-AA; ComponentLink1Description: LMS1587 Datasheet; ComponentLink1URL: http://www.national.com/ds/LM/LMS1587.pdf; ComponentLink2Description: LMS1587 Web Page; ComponentLink2URL: http://www.national.com/pf/LM/LMS1587.html; ComponentLink3Description: TS3B Package Page; ComponentLink3URL: http://www.national.com/packaging/folders/ts3b.html
footprint TS3B_N (D2-PAK, 4-Leads, Body 8.6x10.2mm, Pitch 2.54mm, Lead Span 14.2mm, IPC Medium Density)
footprint TS3B_L (D2-PAK, 4-Leads, Body 8.6x10.2mm, Pitch 2.54mm, Lead Span 14.2mm, IPC High Density)
footprint TS3B_M (D2-PAK, 4-Leads, Body 8.6x10.2mm, Pitch 2.54mm, Lead Span 14.2mm, IPC Low Density)
pins: 1 GND (power), 2 OUT (power), 3 IN (power), 4 TAB (power)

## LMS1587CS-ADJ
designator U?
3A Low Dropout Fast Response Regulators; PartNumber: LMS1587CS-ADJ; Manufacturer: National Semiconductor; CompType: LDO IC; PackageTopMarking: NSUZXYTTE#*LMS1587*CS-ADJ; Published: 4-Dec-2008; DatasheetVersion: Jun-2005; PackageVersion: revF, Apr-2005; PackageReference: TS3B; Publisher: Altium Limited; PackageDescription: TO-263, Molded, .400 x .390 x .180in, 3 Lead, .1in Pitch, Surface Mount; RoHS: O; PinCount: 3; DigiKeyPartNumber: LMS1587CS-ADJ-ND; Code_JEDEC: MO-169-AA; ComponentLink1Description: LMS1587 Datasheet; ComponentLink1URL: http://www.national.com/ds/LM/LMS1587.pdf; ComponentLink2Description: LMS1587 Web Page; ComponentLink2URL: http://www.national.com/pf/LM/LMS1587.html; ComponentLink3Description: TS3B Package Page; ComponentLink3URL: http://www.national.com/packaging/folders/ts3b.html
footprint TS3B_N (D2-PAK, 4-Leads, Body 8.6x10.2mm, Pitch 2.54mm, Lead Span 14.2mm, IPC Medium Density)
footprint TS3B_L (D2-PAK, 4-Leads, Body 8.6x10.2mm, Pitch 2.54mm, Lead Span 14.2mm, IPC High Density)
footprint TS3B_M (D2-PAK, 4-Leads, Body 8.6x10.2mm, Pitch 2.54mm, Lead Span 14.2mm, IPC Low Density)
pins: 1 ADJ (in), 2 OUT (power), 3 IN (power), 4 TAB (power)

## LMS1587CT-1.5
designator U?
3A Low Dropout Fast Response Regulators; PartNumber: LMS1587CT-1.5; Manufacturer: National Semiconductor; CompType: LDO IC; PackageTopMarking: NSUZXYTTE#*LMS1587*CT-1.5; Published: 4-Dec-2008; DatasheetVersion: Jun-2005; PackageVersion: revL, Jan-1992; PackageReference: T03B; Publisher: Altium Limited; PackageDescription: TO-220, Molded, 3 Lead, Straight; RoHS: O; PinCount: 3; DigiKeyPartNumber: LMS1587CT-1.5-ND; ComponentLink1Description: LMS1587 Datasheet; ComponentLink1URL: http://www.national.com/ds/LM/LMS1587.pdf; ComponentLink2Description: LMS1587 Web Page; ComponentLink2URL: http://www.national.com/pf/LM/LMS1587.html; ComponentLink3Description: T03B Package Page; ComponentLink3URL: http://www.national.com/packaging/folders/t03b.html
footprint T03B (TO, Thru-Hole, Vertical, Heatsink Mounted; 3 In-Line Leads; Pitch 2.54 mm)
pins: 1 GND (power), 2 OUT (power), 3 IN (power)

## LMS1587CT-3.3
designator U?
3A Low Dropout Fast Response Regulators; PartNumber: LMS1587CT-3.3; Manufacturer: National Semiconductor; CompType: LDO IC; PackageTopMarking: NSUZXYTTE#*LMS1587*CT-3.3; Published: 4-Dec-2008; DatasheetVersion: Jun-2005; PackageVersion: revL, Jan-1992; PackageReference: T03B; Publisher: Altium Limited; PackageDescription: TO-220, Molded, 3 Lead, Straight; RoHS: O; PinCount: 3; DigiKeyPartNumber: LMS1587CT-3.3-ND; ComponentLink1Description: LMS1587 Datasheet; ComponentLink1URL: http://www.national.com/ds/LM/LMS1587.pdf; ComponentLink2Description: LMS1587 Web Page; ComponentLink2URL: http://www.national.com/pf/LM/LMS1587.html; ComponentLink3Description: T03B Package Page; ComponentLink3URL: http://www.national.com/packaging/folders/t03b.html
footprint T03B (TO, Thru-Hole, Vertical, Heatsink Mounted; 3 In-Line Leads; Pitch 2.54 mm)
pins: 1 GND (power), 2 OUT (power), 3 IN (power)

## LMS1587CT-ADJ
designator U?
3A Low Dropout Fast Response Regulators; PartNumber: LMS1587CT-ADJ; Manufacturer: National Semiconductor; CompType: LDO IC; PackageTopMarking: NSUZXYTTE#*LMS1587*CT-ADJ; Published: 4-Dec-2008; DatasheetVersion: Jun-2005; PackageVersion: revL, Jan-1992; PackageReference: T03B; Publisher: Altium Limited; PackageDescription: TO-220, Molded, 3 Lead, Straight; RoHS: O; PinCount: 3; DigiKeyPartNumber: LMS1587CT-ADJ-ND; ComponentLink1Description: LMS1587 Datasheet; ComponentLink1URL: http://www.national.com/ds/LM/LMS1587.pdf; ComponentLink2Description: LMS1587 Web Page; ComponentLink2URL: http://www.national.com/pf/LM/LMS1587.html; ComponentLink3Description: T03B Package Page; ComponentLink3URL: http://www.national.com/packaging/folders/t03b.html
footprint T03B (TO, Thru-Hole, Vertical, Heatsink Mounted; 3 In-Line Leads; Pitch 2.54 mm)
pins: 1 ADJ (in), 2 OUT (power), 3 IN (power)

## LMS1587IS-1.5
designator U?
3A Low Dropout Fast Response Regulators; PartNumber: LMS1587IS-1.5; Manufacturer: National Semiconductor; CompType: LDO IC; PackageTopMarking: NSUZXYTTE#*LMS1587*IS-1.5; Published: 4-Dec-2008; DatasheetVersion: Jun-2005; PackageVersion: revF, Apr-2005; PackageReference: TS3B; Publisher: Altium Limited; PackageDescription: TO-263, Molded, .400 x .390 x .180in, 3 Lead, .1in Pitch, Surface Mount; RoHS: O; PinCount: 3; DigiKeyPartNumber: LMS1587IS-1.5-ND; Code_JEDEC: MO-169-AA; ComponentLink1Description: LMS1587 Datasheet; ComponentLink1URL: http://www.national.com/ds/LM/LMS1587.pdf; ComponentLink2Description: LMS1587 Web Page; ComponentLink2URL: http://www.national.com/pf/LM/LMS1587.html; ComponentLink3Description: TS3B Package Page; ComponentLink3URL: http://www.national.com/packaging/folders/ts3b.html
footprint TS3B_N (D2-PAK, 4-Leads, Body 8.6x10.2mm, Pitch 2.54mm, Lead Span 14.2mm, IPC Medium Density)
footprint TS3B_L (D2-PAK, 4-Leads, Body 8.6x10.2mm, Pitch 2.54mm, Lead Span 14.2mm, IPC High Density)
footprint TS3B_M (D2-PAK, 4-Leads, Body 8.6x10.2mm, Pitch 2.54mm, Lead Span 14.2mm, IPC Low Density)
pins: 1 GND (power), 2 OUT (power), 3 IN (power), 4 TAB (power)

## LMS1587IS-3.3
designator U?
3A Low Dropout Fast Response Regulators; PartNumber: LMS1587IS-3.3; Manufacturer: National Semiconductor; CompType: LDO IC; PackageTopMarking: NSUZXYTTE#*LMS1587*IS-3.3; Published: 4-Dec-2008; DatasheetVersion: Jun-2005; PackageVersion: revF, Apr-2005; PackageReference: TS3B; Publisher: Altium Limited; PackageDescription: TO-263, Molded, .400 x .390 x .180in, 3 Lead, .1in Pitch, Surface Mount; RoHS: O; PinCount: 3; DigiKeyPartNumber: LMS1587IS-3.3-ND; Code_JEDEC: MO-169-AA; ComponentLink1Description: LMS1587 Datasheet; ComponentLink1URL: http://www.national.com/ds/LM/LMS1587.pdf; ComponentLink2Description: LMS1587 Web Page; ComponentLink2URL: http://www.national.com/pf/LM/LMS1587.html; ComponentLink3Description: TS3B Package Page; ComponentLink3URL: http://www.national.com/packaging/folders/ts3b.html
footprint TS3B_N (D2-PAK, 4-Leads, Body 8.6x10.2mm, Pitch 2.54mm, Lead Span 14.2mm, IPC Medium Density)
footprint TS3B_L (D2-PAK, 4-Leads, Body 8.6x10.2mm, Pitch 2.54mm, Lead Span 14.2mm, IPC High Density)
footprint TS3B_M (D2-PAK, 4-Leads, Body 8.6x10.2mm, Pitch 2.54mm, Lead Span 14.2mm, IPC Low Density)
pins: 1 GND (power), 2 OUT (power), 3 IN (power), 4 TAB (power)